# Altium footprint library CH341A.PcbLib: 3 footprints
Each footprint in its own frame and in the unit in brackets; x right, y up, seen from the top. Pads: shape width x height; smd on the part's side, far side on the other; paste and mask are expansions set on the pad; w line width, h text height; cw(c..) or ccw(c..) is an arc to the next point about the centre after c.
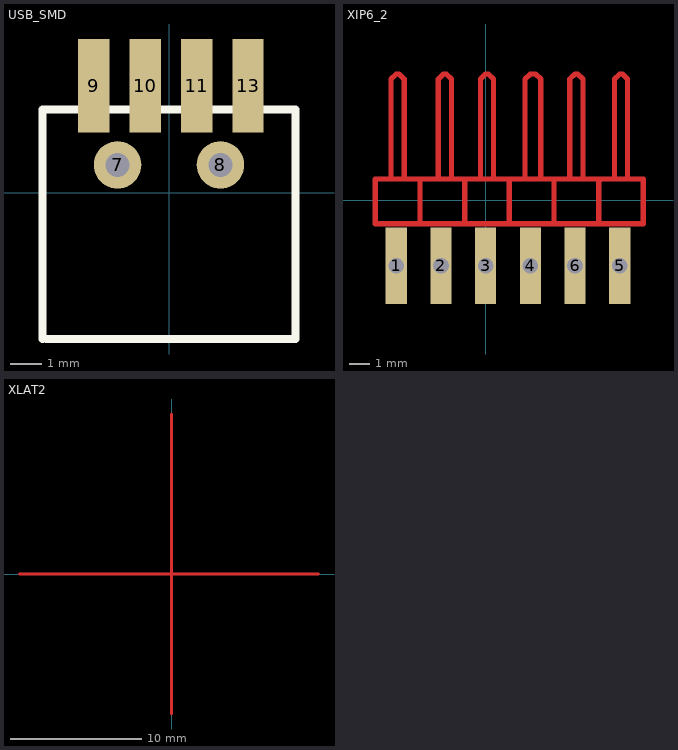
[diagram p0: the footprints below, top view; thin cyan lines are the x and y axes]

## USB_SMD [mil]
pads (6):
  round 60 hole 30: 7(-65,35) 8(65,35)
  rect 39.37x118.11 all layers, no hole: 9(-95,135) 10(-30,135) 11(35,135) 13(100,135)
Top Overlay:
  lines w10: -160,-185 -160,105 160,105 160,-185 -155,-185

## XIP6_2 [mm]
pads (6):
  rect 1.02x3.7 hole 0.762 square: 1(-4.318,-3.175)
  rect 1.02x3.7 hole 0.762: 2(-2.159,-3.175) 3(0,-3.175) 4(2.159,-3.175) 5(6.477,-3.175) 6(4.318,-3.175)
Top Layer:
  lines w0.254: -4.572,1.016 -4.572,5.842 -4.318,6.096 -4.191,6.096 -3.937,5.842 -3.937,1.016 ; -2.286,1.016 -2.286,5.842 -2.032,6.096 -1.905,6.096 -1.651,5.842 -1.651,1.143 ; -1.016,-1.143 -1.016,0.889 ; -0.254,1.016 -0.254,5.842 0,6.096 0.127,6.096 0.381,5.842 0.381,5.334 0.381,1.143 ; 1.143,-1.143 1.143,0.953 ; 1.905,1.016 1.905,5.842 2.159,6.096 2.413,6.096 2.667,5.842 2.667,1.016 ; 3.302,-1.143 3.302,1.016 ; 4.064,1.016 4.064,5.842 4.318,6.096 4.445,6.096 4.699,5.842 4.699,1.016 ; 5.461,-1.143 5.461,0.889 5.588,1.016 ; 6.223,1.016 6.223,5.842 6.477,6.096 6.604,6.096 6.858,5.842 6.858,1.016 ; -3.175,-1.143 7.62,-1.143 7.62,1.016 3.302,1.016 ; -3.175,-1.143 -3.175,1.016 ; -3.175,-1.143 -3.429,-1.143 -5.334,-1.143 -5.334,1.016 -3.175,1.016 ; -3.175,1.016 -1.143,1.016 3.302,1.016

## XLAT2 [mil]
Top Layer:
  lines w10: -455,0 -300,0 380,0 440,0 ; 0,-420 0,480
3D body: height 10, standoff 0, extent -140,-105 -140,-105